# Altium footprint library DKF104H3.PcbLib: 1 footprints
Each footprint in its own frame and in the unit in brackets; x right, y up, seen from the top. Pads: shape width x height; smd on the part's side, far side on the other; paste and mask are expansions set on the pad; w line width, h text height; cw(c..) or ccw(c..) is an arc to the next point about the centre after c.
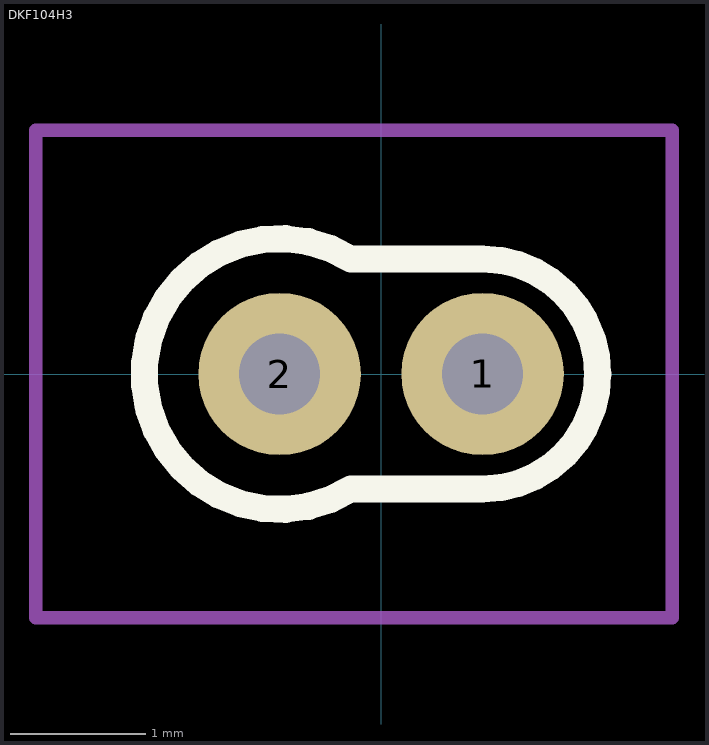
[diagram p0: the footprint, top view; thin cyan lines are the x and y axes]

## DKF104H3 [mm]
pads (2):
  round 1.2 hole 0.6: 1(0.75,0) 2(-0.75,0)
Top Overlay:
  lines w0.2: 1.6,0 ccw(c0.75,0) 0.75,0.85 -0.223,0.85 ccw(c-0.75,0) -0.223,-0.85 0.75,-0.85 ccw(c0.75,0) 1.6,0 ; 1.6,0 1.6,0
Top Courtyard:
  lines w0.1: -2.55,-1.8 -1.75,-1.8 2.15,-1.8 2.15,1.8 -2.55,1.8 -2.55,-1.8
3D body "DKF104GH3_V.STEP": height 7.35, standoff -2.9, extent -1.75,-1 1,1